# Altium footprint library 船型开关.PcbLib: 1 footprints
Each footprint in its own frame and in the unit in brackets; x right, y up, seen from the top. Pads: shape width x height; smd on the part's side, far side on the other; paste and mask are expansions set on the pad; w line width, h text height; cw(c..) or ccw(c..) is an arc to the next point about the centre after c.
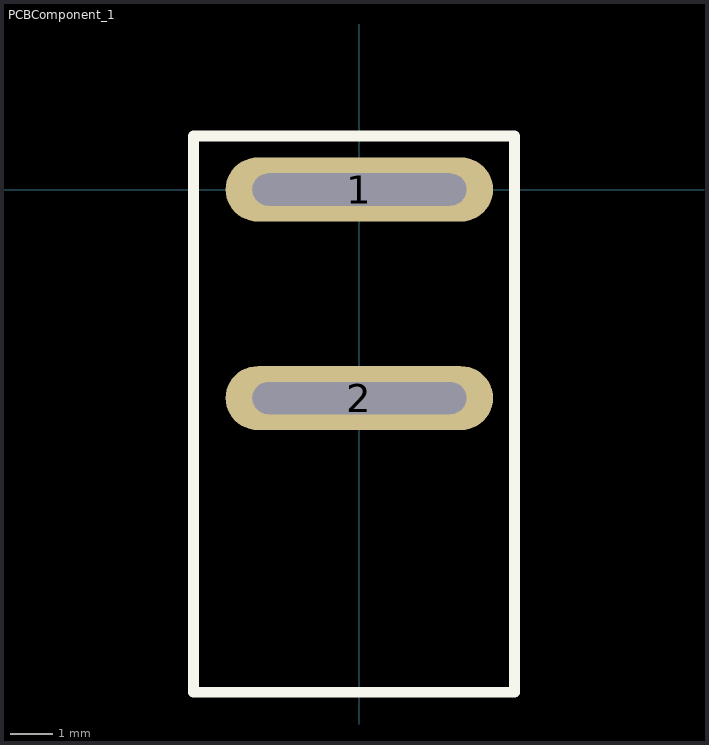
[diagram p0: the footprint, top view; thin cyan lines are the x and y axes]

## PCBComponent_1 [mil]
pads (2):
  oval 250x60 hole 30 slot 200 at 0 deg: 1(0,0) 2(0,-195)
Top Overlay:
  lines w10: -155,-470 -155,50 145,50 145,-470 -155,-470